# Altium footprint library CQFP_Sq_65P_Side_L.PcbLib: 1 footprints
Each footprint in its own frame and in the unit in brackets; x right, y up, seen from the top. Pads: shape width x height; smd on the part's side, far side on the other; paste and mask are expansions set on the pad; w line width, h text height; cw(c..) or ccw(c..) is an arc to the next point about the centre after c.
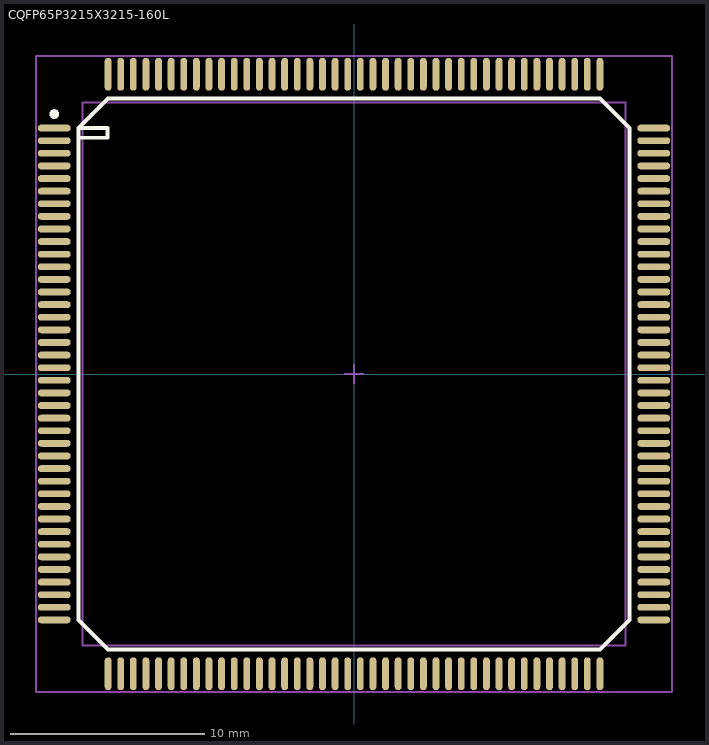
[diagram p0: the footprint, top view; thin cyan lines are the x and y axes]

## CQFP65P3215X3215-160L [mm] "CQFP, 160-Leads, Body 28x28mm; Pitch 0.65mm, Gullwing Leadform, IPC High Density"
height 3.4
pads (160):
  oval 1.7x0.35 smd: 1(-15.45,12.675) 2(-15.45,12.025) 3(-15.45,11.375) 4(-15.45,10.725) 5(-15.45,10.075) 6(-15.45,9.425) 7(-15.45,8.775) 8(-15.45,8.125) 9(-15.45,7.475) 10(-15.45,6.825) 11(-15.45,6.175) 12(-15.45,5.525) 13(-15.45,4.875) 14(-15.45,4.225) 15(-15.45,3.575) 16(-15.45,2.925) 17(-15.45,2.275) 18(-15.45,1.625) 19(-15.45,0.975) 20(-15.45,0.325) 21(-15.45,-0.325) 22(-15.45,-0.975) 23(-15.45,-1.625) 24(-15.45,-2.275) 25(-15.45,-2.925) 26(-15.45,-3.575) 27(-15.45,-4.225) 28(-15.45,-4.875) 29(-15.45,-5.525) 30(-15.45,-6.175) 31(-15.45,-6.825) 32(-15.45,-7.475) 33(-15.45,-8.125) 34(-15.45,-8.775) 35(-15.45,-9.425) 36(-15.45,-10.075) 37(-15.45,-10.725) 38(-15.45,-11.375) 39(-15.45,-12.025) 40(-15.45,-12.675) 81(15.45,-12.675) 82(15.45,-12.025) 83(15.45,-11.375) 84(15.45,-10.725) 85(15.45,-10.075) 86(15.45,-9.425) 87(15.45,-8.775) 88(15.45,-8.125) 89(15.45,-7.475) 90(15.45,-6.825) 91(15.45,-6.175) 92(15.45,-5.525) 93(15.45,-4.875) 94(15.45,-4.225) 95(15.45,-3.575) 96(15.45,-2.925) 97(15.45,-2.275) 98(15.45,-1.625) 99(15.45,-0.975) 100(15.45,-0.325) 101(15.45,0.325) 102(15.45,0.975) 103(15.45,1.625) 104(15.45,2.275) 105(15.45,2.925) 106(15.45,3.575) 107(15.45,4.225) 108(15.45,4.875) 109(15.45,5.525) 110(15.45,6.175) 111(15.45,6.825) 112(15.45,7.475) 113(15.45,8.125) 114(15.45,8.775) 115(15.45,9.425) 116(15.45,10.075) 117(15.45,10.725) 118(15.45,11.375) 119(15.45,12.025) 120(15.45,12.675)
  oval 0.35x1.7 smd: 41(-12.675,-15.45) 42(-12.025,-15.45) 43(-11.375,-15.45) 44(-10.725,-15.45) 45(-10.075,-15.45) 46(-9.425,-15.45) 47(-8.775,-15.45) 48(-8.125,-15.45) 49(-7.475,-15.45) 50(-6.825,-15.45) 51(-6.175,-15.45) 52(-5.525,-15.45) 53(-4.875,-15.45) 54(-4.225,-15.45) 55(-3.575,-15.45) 56(-2.925,-15.45) 57(-2.275,-15.45) 58(-1.625,-15.45) 59(-0.975,-15.45) 60(-0.325,-15.45) 61(0.325,-15.45) 62(0.975,-15.45) 63(1.625,-15.45) 64(2.275,-15.45) 65(2.925,-15.45) 66(3.575,-15.45) 67(4.225,-15.45) 68(4.875,-15.45) 69(5.525,-15.45) 70(6.175,-15.45) 71(6.825,-15.45) 72(7.475,-15.45) 73(8.125,-15.45) 74(8.775,-15.45) 75(9.425,-15.45) 76(10.075,-15.45) 77(10.725,-15.45) 78(11.375,-15.45) 79(12.025,-15.45) 80(12.675,-15.45) 121(12.675,15.45) 122(12.025,15.45) 123(11.375,15.45) 124(10.725,15.45) 125(10.075,15.45) 126(9.425,15.45) 127(8.775,15.45) 128(8.125,15.45) 129(7.475,15.45) 130(6.825,15.45) 131(6.175,15.45) 132(5.525,15.45) 133(4.875,15.45) 134(4.225,15.45) 135(3.575,15.45) 136(2.925,15.45) 137(2.275,15.45) 138(1.625,15.45) 139(0.975,15.45) 140(0.325,15.45) 141(-0.325,15.45) 142(-0.975,15.45) 143(-1.625,15.45) 144(-2.275,15.45) 145(-2.925,15.45) 146(-3.575,15.45) 147(-4.225,15.45) 148(-4.875,15.45) 149(-5.525,15.45) 150(-6.175,15.45) 151(-6.825,15.45) 152(-7.475,15.45) 153(-8.125,15.45) 154(-8.775,15.45) 155(-9.425,15.45) 156(-10.075,15.45) 157(-10.725,15.45) 158(-11.375,15.45) 159(-12.025,15.45) 160(-12.675,15.45)
Top Overlay:
  circle w0.25: c-15.45,13.4 r0.125
  lines w0.2: -14.2,12.175 -12.7,12.175 -12.7,12.675 -14.2,12.675 ; -14.2,12.675 -12.675,14.2 12.675,14.2 14.2,12.675 14.2,-12.675 12.675,-14.2 -12.675,-14.2 -14.2,-12.675 -14.2,12.675
Mechanical 13:
  lines w0.1: -14,-14 14,-14 14,14 -14,14 -14,-14
Mechanical 15:
  lines w0.1: -0.5,0 0.5,0 ; 0,-0.5 0,0.5 ; -16.4,-16.4 16.4,-16.4 16.4,16.4 -16.4,16.4 -16.4,-16.4
3D body: height 3.4, standoff 0, extent -14,-14 14,14